# Altium schematic symbol library PCB_Project1.SCHLIB: 1 symbol
Pins are listed as number, name and electrical type; pins without a type are passive.

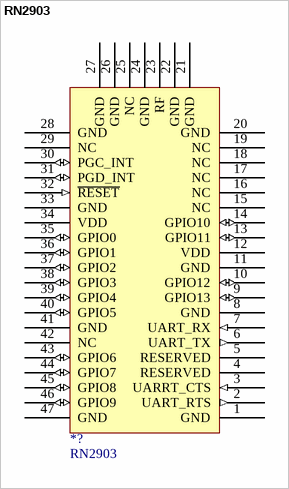
[diagram p0: symbol RN2903]

## RN2903
designator *?
footprint RN2903
pins: 1 GND (power), 2 UART_RTS (out), 3 UARRT_CTS (in), 4 RESERVED, 5 RESERVED, 6 UART_TX (out), 7 UART_RX (in), 8 GND (power), 9 GPIO13 (io), 10 GPIO12 (io), 11 GND (power), 12 VDD (power), 13 GPIO11 (io), 14 GPIO10 (io), 15 NC, 16 NC, 17 NC, 18 NC, 19 NC, 20 GND, 21 GND (power), 22 GND (power), 23 RF, 24 GND (power), 25 NC, 26 GND (power), 27 GND (power), 28 GND (power), 29 NC, 30 PGC_INT (io), 31 PGD_INT (io), 32 ~{RESET} (in), 33 GND (power), 34 VDD (power), 35 GPIO0 (io), 36 GPIO1 (io), 37 GPIO2 (io), 38 GPIO3 (io), 39 GPIO4 (io), 40 GPIO5 (io), 41 GND (power), 42 NC, 43 GPIO6 (io), 44 GPIO7 (io), 45 GPIO8 (io), 46 GPIO9 (io), 47 GND (power)